# EAGLE library part TPD4E1U06DBVR (library SamacSys_Parts)
Quad High Speed ESD Protection SOT-23-6 Texas Instruments TPD4E1U06DBVR Quad Uni-Directional ESD Protection Array, 45W peak, 6-Pin SOT-23 Source: Datasheet <http://www.ti.com/lit/ds/symlink/tpd4e1u06.pdf>
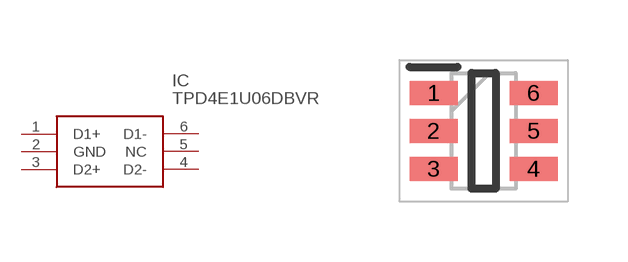
[diagram p7: symbol with the pads of SOT95P280X145-6N; footprint SOT95P280X145-6N]

Designator prefix IC

## TPD4E1U06DBVR (DESCRIPTION: Quad High Speed ESD Protection SOT-23-6 Texas Instruments TPD4E1U06DBVR Quad Uni-Directional ESD Protection Array, 45W peak, 6-Pin SOT-23; HEIGHT: 1.45mm; MANUFACTURER_NAME: Texas Instruments; MANUFACTURER_PART_NUMBER: TPD4E1U06DBVR; MOUSER_PART_NUMBER: 595-TPD4E1U06DBVR; MOUSER_PRICE-STOCK: https://www.mouser.com/Search/Refine.aspx?Keyword=595-TPD4E1U06DBVR)  [SOT95P280X145-6N]
1  D1+
2  GND  pwr
3  D2+
4  D2-
5  NC  nc
6  D1-

## Footprint SOT95P280X145-6N (pad centres in mm)
DBV (R-PDSO-G6)
smd 1.2 x 0.6: 1 -1.25,0.95; 2 -1.25,0; 3 -1.25,-0.95; 4 1.25,-0.95; 5 1.25,0; 6 1.25,0.95